# Altium footprint library CHIP_2506.PcbLib: 1 footprints
Each footprint in its own frame and in the unit in brackets; x right, y up, seen from the top. Pads: shape width x height; smd on the part's side, far side on the other; paste and mask are expansions set on the pad; w line width, h text height; cw(c..) or ccw(c..) is an arc to the next point about the centre after c.
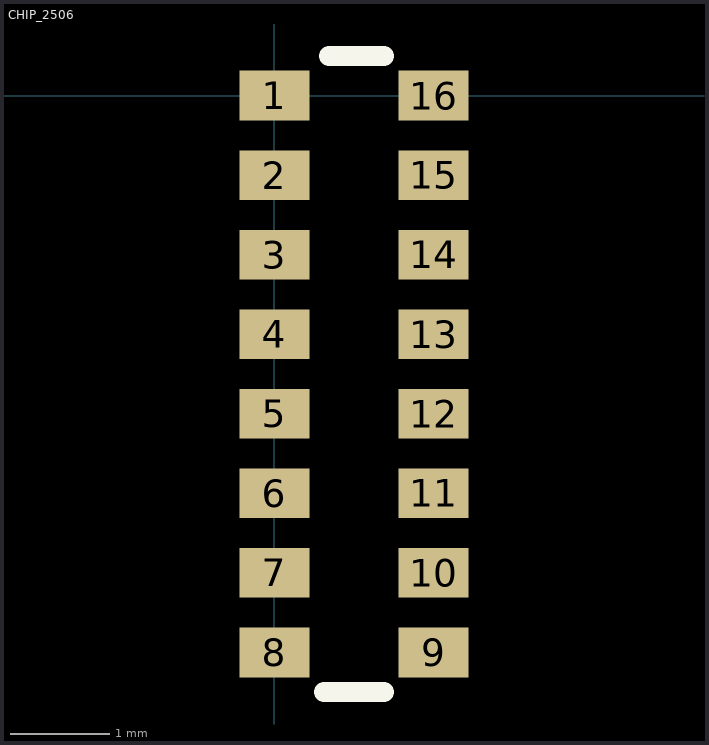
[diagram p0: the footprint, top view; thin cyan lines are the x and y axes]

## CHIP_2506 [mm]
pads (16):
  rect 0.7x0.5 smd mask+0.062: 1(0,0) 2(0,-0.8) 3(0,-1.6) 4(0,-2.4) 5(0,-3.2) 6(0,-4) 7(0,-4.8) 8(0,-5.6) 9(1.6,-5.6) 10(1.6,-4.8) 11(1.6,-4) 12(1.6,-3.2) 13(1.6,-2.4) 14(1.6,-1.6) 15(1.6,-0.8) 16(1.6,0)
Top Overlay:
  lines w0.2: 0.5,-6 1.1,-6 ; 0.55,0.4 1.1,0.4
3D body: height 0.53, standoff 0, extent 0,-6 1.6,0.4